# EAGLE library part 10PIN (library JST_ePH)
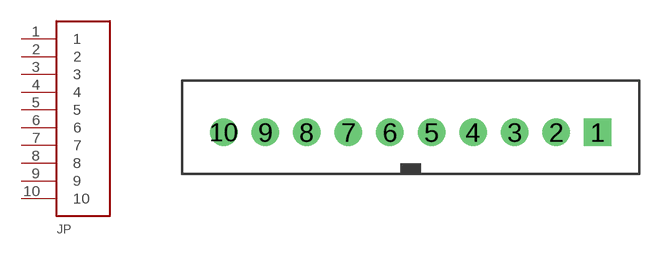
[diagram p4: symbol with the pads of B10B-PH-K-S; footprint B10B-PH-K-S]

Designator prefix JP

## 10PIN  [B10B-PH-K-S]
1  1
2  2
3  3
4  4
5  5
6  6
7  7
8  8
9  9
10  10

## Footprint B10B-PH-K-S (pad centres in mm)
drill 0.813 square: 1 9,0
drill 0.813 round: 2 7,0; 3 5,0; 4 3,0; 5 1,0; 6 -1,0; 7 -3,0; 8 -5,0; 9 -7,0; 10 -9,0